# Altium integrated library Heltec_WiFi_LoRa_32_V3.IntLib: 1 symbol
Pins are listed as number, name and electrical type; pins without a type are passive.

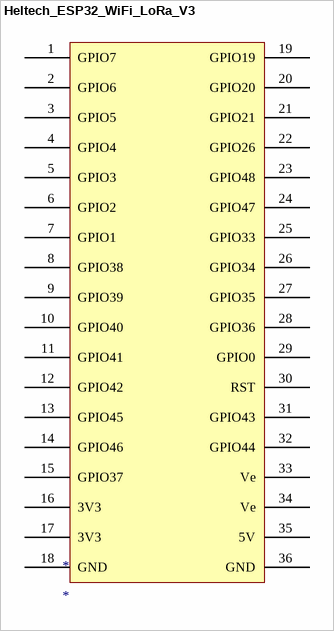
[diagram p0: symbol Heltech_ESP32_WiFi_LoRa_V3]

## Heltech_ESP32_WiFi_LoRa_V3
designator *
ComponentLink1Description: Product Page; ComponentLink1URL: https://heltec.org/project/wifi-lora-32-v3/
footprint PCBComponent_1
pins: 1 GPIO7, 2 GPIO6, 3 GPIO5, 4 GPIO4, 5 GPIO3, 6 GPIO2, 7 GPIO1, 8 GPIO38, 9 GPIO39, 10 GPIO40, 11 GPIO41, 12 GPIO42, 13 GPIO45, 14 GPIO46, 15 GPIO37, 16 3V3, 17 3V3, 18 GND, 19 GPIO19, 20 GPIO20, 21 GPIO21, 22 GPIO26, 23 GPIO48, 24 GPIO47, 25 GPIO33, 26 GPIO34, 27 GPIO35, 28 GPIO36, 29 GPIO0, 30 RST, 31 GPIO43, 32 GPIO44, 33 Ve, 34 Ve, 35 5V, 36 GND